# Altium footprint library LTE_GPS_433_V1.0.PcbLib: 60 footprints (part 3 of 4)
Each footprint in its own frame and in the unit in brackets; x right, y up, seen from the top. Pads: shape width x height; smd on the part's side, far side on the other; paste and mask are expansions set on the pad; w line width, h text height; cw(c..) or ccw(c..) is an arc to the next point about the centre after c.
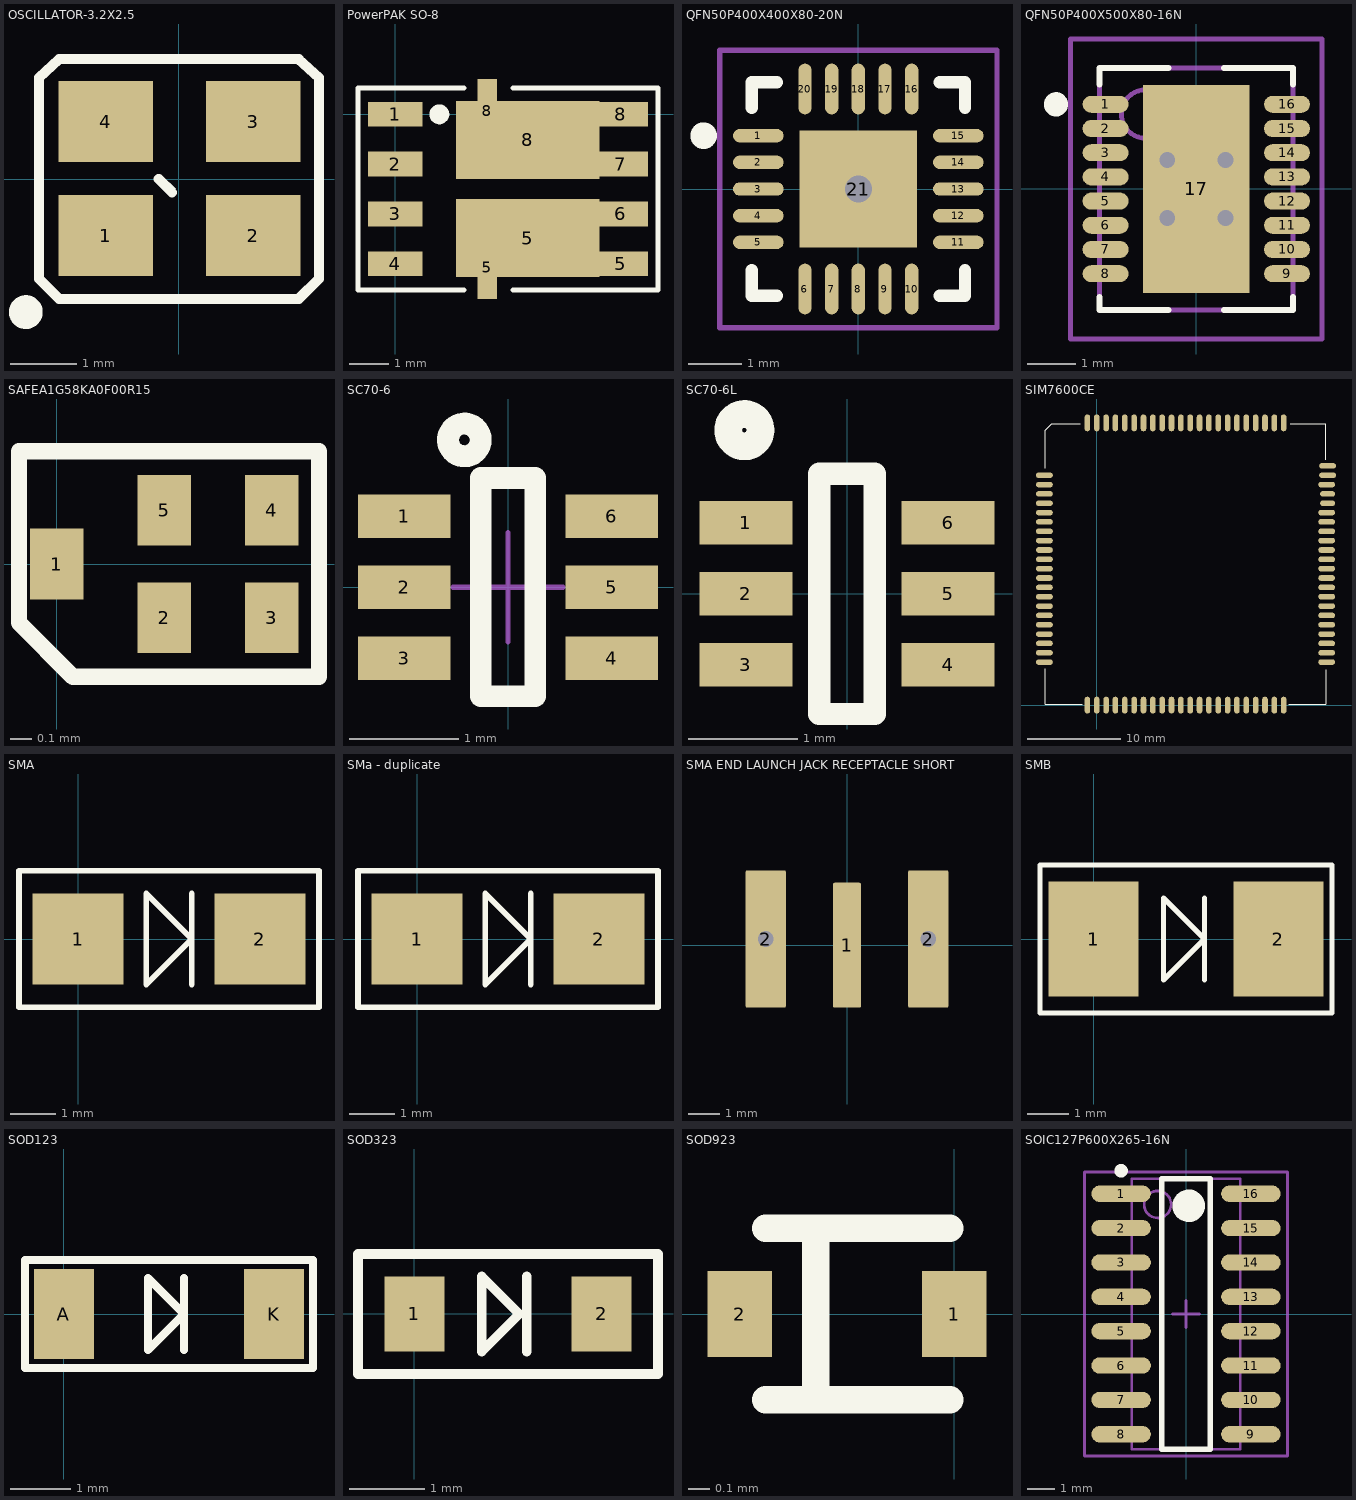
[diagram p2: the footprints below, top view; thin cyan lines are the x and y axes]

## OSCILLATOR-3.2X2.5 [mil] "OSCILLATOR-3.2X2.5"
height 55.12
pads (4):
  rect 56x48 smd: 1(-43.31,-33.46) 2(44,-33.46) 3(44,34) 4(-43.31,34)
Top Overlay:
  circle w12: c-90.55,-78.74 r4
  lines w6: -11.81,0 -3.94,-7.87 ; -82.68,-59.06 -70.87,-70.87 71,-70.87 83,-59.06 83,60 71,71 -70.87,71 -82.68,60 -82.68,-59.06
Mechanical 16:
  lines w1: -82.68,-59.06 -70.87,-70.87 71,-70.87 83,-59.06 83,60 71,71 -70.87,71 -82.68,60 -82.68,-59.06

## PowerPAK SO-8 [mm]
pads (12):
  rect 1.397x0.635 smd: 1(0,0) 2(0,-1.27) 3(0,-2.54) 4(0,-3.81) 5(5.75,-3.81) 6(5.75,-2.54) 7(5.75,-1.27) 8(5.75,0)
  rect 0.5x1.6 smd: 5(2.35,-3.905) 8(2.35,0.095)
  rect 3.66x2 smd: 5(3.375,-3.155) 8(3.375,-0.655)
Top Overlay:
  circle w0.254: c1.123,0 r0.127
  lines w0.127: 1.75,-4.48 -0.95,-4.48 -0.95,0.67 1.75,0.67 ; 3,-4.48 6.7,-4.48 6.7,0.67 3,0.67

## QFN50P400X400X80-20N [mm] "QFN, 20-Leads, Body 4.0x4.0mm (max), Pitch 0.50mm, IPC Medium Density"
height 0.8
pads (21):
  oval 0.95x0.25 smd: 1(-1.875,1) 2(-1.875,0.5) 3(-1.875,0) 4(-1.875,-0.5) 5(-1.875,-1) 11(1.875,-1) 12(1.875,-0.5) 13(1.875,0) 14(1.875,0.5) 15(1.875,1)
  oval 0.25x0.95 smd: 6(-1,-1.875) 7(-0.5,-1.875) 8(0,-1.875) 9(0.5,-1.875) 10(1,-1.875) 16(1,1.875) 17(0.5,1.875) 18(0,1.875) 19(-0.5,1.875) 20(-1,1.875)
  rect 2.2x2.2 smd: 21(0,0)
via 0,0 diameter 0.762 hole 0.508
Top Overlay:
  circle w0.25: c-2.9,1 r0.125
  lines w0.229: -2,-1.525 -2,-2 -1.525,-2 ; -2,1.525 -2,2 -1.525,2 ; 1.525,-2 2,-2 2,-1.525 ; 1.525,2 2,2 2,1.525
Mechanical 15:
  lines w0.1: -0.5,0 0.5,0 ; 0,-0.5 0,0.5 ; -2.6,-2.6 2.6,-2.6 2.6,2.6 -2.6,2.6 -2.6,-2.6

## QFN50P400X500X80-16N [mm] "QFN, 16-Leads, Body 5.0x4.0mm (max), Pitch 0.50mm, IPC Medium Density"
height 0.8
pads (17):
  oval 0.95x0.35 smd: 1(-1.875,1.75) 2(-1.875,1.25) 3(-1.875,0.75) 4(-1.875,0.25) 5(-1.875,-0.25) 6(-1.875,-0.75) 7(-1.875,-1.25) 8(-1.875,-1.75) 9(1.875,-1.75) 10(1.875,-1.25) 11(1.875,-0.75) 12(1.875,-0.25) 13(1.875,0.25) 14(1.875,0.75) 15(1.875,1.25) 16(1.875,1.75)
  rect 2.2x4.3 smd: 17(0,0)
via 0.6,-0.6 diameter 0.66 hole 0.33
via -0.6,-0.6 diameter 0.66 hole 0.33
via 0.6,0.6 diameter 0.66 hole 0.33
via -0.6,0.6 diameter 0.66 hole 0.33
Top Overlay:
  circle w0.25: c-2.9,1.75 r0.125
  lines w0.127: -2,-2.235 -2,-2.5 -0.575,-2.5 ; -2,2.159 -2,2.5 -0.575,2.5 ; 0.575,-2.5 2,-2.5 2,-2.235 ; 0.575,2.5 2,2.5 2,2.159
Mechanical 13:
  circle w0.1: c-1.05,1.55 r0.5
  lines w0.1: -2,-2.5 2,-2.5 2,2.5 -2,2.5 -2,-2.5
Mechanical 15:
  lines w0.1: -0.5,0 0.5,0 ; 0,-0.5 0,0.5 ; -2.6,-3.1 2.6,-3.1 2.6,3.1 -2.6,3.1 -2.6,-3.1
3D body: height 0.8, standoff 0.01, extent -2,-2.5 2,2.5

## SAFEA1G58KA0F00R15 [mm]
pads (5):
  rect 0.25x0.33 smd: 1(0,0) 2(0.5,-0.25) 3(1,-0.25) 4(1,0.25) 5(0.5,0.25)
Top Overlay:
  lines w0.076: -0.175,-0.274 0.076,-0.525 1.22,-0.525 1.22,0.525 -0.175,0.525 -0.175,-0.274

## SC70-6 [mm] "SC70 6-Leads, Body 2.0x1.25mm, Pitch 0.65mm"
height 1.45
pads (6):
  rect 0.85x0.4 smd mask+0.05: 1(-0.95,0.65) 2(-0.95,0) 3(-0.95,-0.65) 4(0.95,-0.65) 5(0.95,0) 6(0.95,0.65)
Top Overlay:
  circle w0.2: c-0.4,1.35 r0.15
  lines w0.2: -0.25,-1 -0.25,1 0.25,1 0.25,-1 -0.25,-1
Mechanical 15:
  lines w0.05: -0.5,0 0.5,0 ; 0,-0.5 0,0.5
3D body: height 1.45, standoff 0, extent -0.625,-1 0.625,1

## SC70-6L [mm]
height 1.1
pads (6):
  rect 0.85x0.4 smd: 1(-0.925,0.65) 2(-0.925,0) 3(-0.925,-0.65) 4(0.925,-0.65) 5(0.925,0) 6(0.925,0.65)
Top Overlay:
  circle w0.254: c-0.94,1.499 r0.148
  lines w0.203: -0.254,-1.1 0.254,-1.1 0.254,1.1 -0.254,1.1 -0.254,-1.1

## SIM7600CE [mm]
pads (87):
  oval 1.8x0.6 smd: 1(-5.6,24.6) 2(-5.6,23.6) 3(-5.6,22.6) 4(-5.6,21.6) 5(-5.6,20.6) 6(-5.6,19.6) 7(-5.6,18.6) 8(-5.6,17.6) 9(-5.6,16.6) 10(-5.6,15.6) 11(-5.6,14.6) 12(-5.6,13.6) 13(-5.6,12.6) 14(-5.6,11.6) 15(-5.6,10.6) 16(-5.6,9.6) 17(-5.6,8.6) 18(-5.6,7.6) 19(-5.6,6.6) 20(-5.6,5.6) 41(24.6,5.6) 42(24.6,6.6) 43(24.6,7.6) 44(24.6,8.6) 45(24.6,9.6) 46(24.6,10.6) 47(24.6,11.6) 48(24.6,12.6) 49(24.6,13.6) 50(24.6,14.6) 51(24.6,15.6) 52(24.6,16.6) 53(24.6,17.6) 54(24.6,18.6) 55(24.6,19.6) 56(24.6,20.6) 59(24.6,23.6) 60(24.7,24.6) 81(-5.6,4.6) 82(24.6,4.6) 85(24.7,25.6)
  oval 0.6x1.8 smd: 21(0,0) 22(1,0) 23(2,0) 24(3,0) 25(4,0) 26(5,0) 27(6,0) 28(7,0) 29(8,0) 30(9,0) 31(10,0) 32(11,0) 33(12,0) 34(13,0) 35(14,0) 36(15,0) 37(16,0) 38(17,0) 39(18,0) 40(19,0) 61(19,30.2) 62(18,30.2) 63(17,30.2) 64(16,30.2) 65(15,30.2) 66(14,30.2) 67(13,30.2) 68(12,30.2) 69(11,30.2) 70(10,30.2) 71(9,30.2) 72(8,30.2) 73(7,30.2) 74(6,30.2) 75(5,30.2) 76(4,30.2) 77(3,30.2) 78(2,30.2) 79(1,30.2) 80(0,30.2) 83(20,0) 84(-1,0) 86(-1,30.2) 87(20,30.2)
  oval 1.6x0.6 smd: 57(24.7,21.6) 58(24.7,22.6)
Top Overlay:
  lines w0.127: -5.5,3.912 -5.5,0.1 -1.575,0.1 ; -5.5,25.324 -5.5,29.414 -4.814,30.1 -1.778,30.1 ; 20.523,0.1 24.5,0.1 24.5,3.785 ; 20.701,30.1 24.5,30.1 24.5,26.238

## SMA [mm]
pads (2):
  rect 2x2 smd: 1(0,0) 2(4,0)
Top Overlay:
  lines w0.127: 2.5,-1 2.5,1 ; -1.3,-1.5 5.3,-1.5 5.3,1.5 -1.3,1.5 -1.3,-1.5 ; 1.5,-1 2.5,0 1.5,1 1.5,-1

## SMa - duplicate [mm]
pads (2):
  rect 2x2 smd: 1(0,0) 2(4,0)
Top Overlay:
  lines w0.127: 2.5,-1 2.5,1 ; -1.3,-1.5 5.3,-1.5 5.3,1.5 -1.3,1.5 -1.3,-1.5 ; 1.5,-1 2.5,0 1.5,1 1.5,-1

## SMA END LAUNCH JACK RECEPTACLE SHORT [mm] "SMA Connector - End Launch Jack Receptacle - Short"
height 8
pads (3):
  rrect10% 0.9x4 smd paste+0 mask+0.05: 1(0,0)
  rrect10% 1.3x4.4 hole 0.5 mask+0.05: 2(-2.6,0.2) 2(2.6,0.2)
3D body: height 8, standoff 0, extent -0.5,-2.05 0.5,2.05

## SMB [mm]
pads (2):
  rect 2.2x2.8 smd: 1(0,0) 2(4.5,0)
Top Overlay:
  lines w0.127: 2.7,-1 2.7,1 ; -1.3,-1.8 -1.3,1.8 5.8,1.8 5.8,-1.8 -1.3,-1.8 ; 1.7,-1 1.7,1 2.7,0 1.7,-1

## SOD123 [mm]
pads (2):
  rect 1x1.5 smd: A(0,0) K(3.5,0)
Top Overlay:
  lines w0.127: 2,-0.6 2,0.6 ; -0.65,-0.9 4.15,-0.9 4.15,0.9 -0.65,0.9 -0.65,-0.9 ; 1.4,-0.6 1.4,0.6 2,0 1.4,-0.6

## SOD323 [mm]
pads (2):
  rect 0.8x1 smd: 1(0,0) 2(2.5,0)
Top Overlay:
  lines w0.127: 1.5,-0.5 1.5,0.5 ; -0.75,-0.8 3.25,-0.8 3.25,0.8 -0.75,0.8 -0.75,-0.8 ; 0.9,-0.5 0.9,0.5 1.4,0 0.9,-0.5

## SOD923 [mm]
pads (2):
  rect 0.3x0.4 smd: 1(0,0) 2(-1,0)
Top Overlay:
  lines w0.127: -0.88,-0.4 -0.02,-0.4 ; -0.88,0.4 -0.02,0.4 ; -0.646,-0.33 -0.646,0.33

## SOIC127P600X265-16N [mm] "SOIC, 16-Leads, Body 10.0x4.0mm (max), Pitch 1.27mm, IPC Medium Density"
height 2.65
pads (16):
  oval 2.2x0.6 smd: 1(-2.4,4.445) 2(-2.4,3.175) 3(-2.4,1.905) 4(-2.4,0.635) 5(-2.4,-0.635) 6(-2.4,-1.905) 7(-2.4,-3.175) 8(-2.4,-4.445) 9(2.4,-4.445) 10(2.4,-3.175) 11(2.4,-1.905) 12(2.4,-0.635) 13(2.4,0.635) 14(2.4,1.905) 15(2.4,3.175) 16(2.4,4.445)
Top Overlay:
  circle w0.6: c0.1,4 r0.3
  circle w0.25: c-2.4,5.295 r0.125
  lines w0.2: -0.9,-5 0.9,-5 0.9,5 -0.9,5 -0.9,-5
Mechanical 13:
  circle w0.1: c-1.05,4.05 r0.5
  lines w0.1: -2,-5 2,-5 2,5 -2,5 -2,-5
Mechanical 15:
  lines w0.1: -0.5,0 0.5,0 ; 0,-0.5 0,0.5 ; -3.75,-5.25 3.75,-5.25 3.75,5.25 -3.75,5.25 -3.75,-5.25
3D body: height 2.65, standoff 0.1, extent -2,-5 2,5